# Altium integrated library Altera MAX 7000S.IntLib: 338 symbols (part 1 of 20)
Pins are listed as number, name and electrical type; pins without a type are passive.

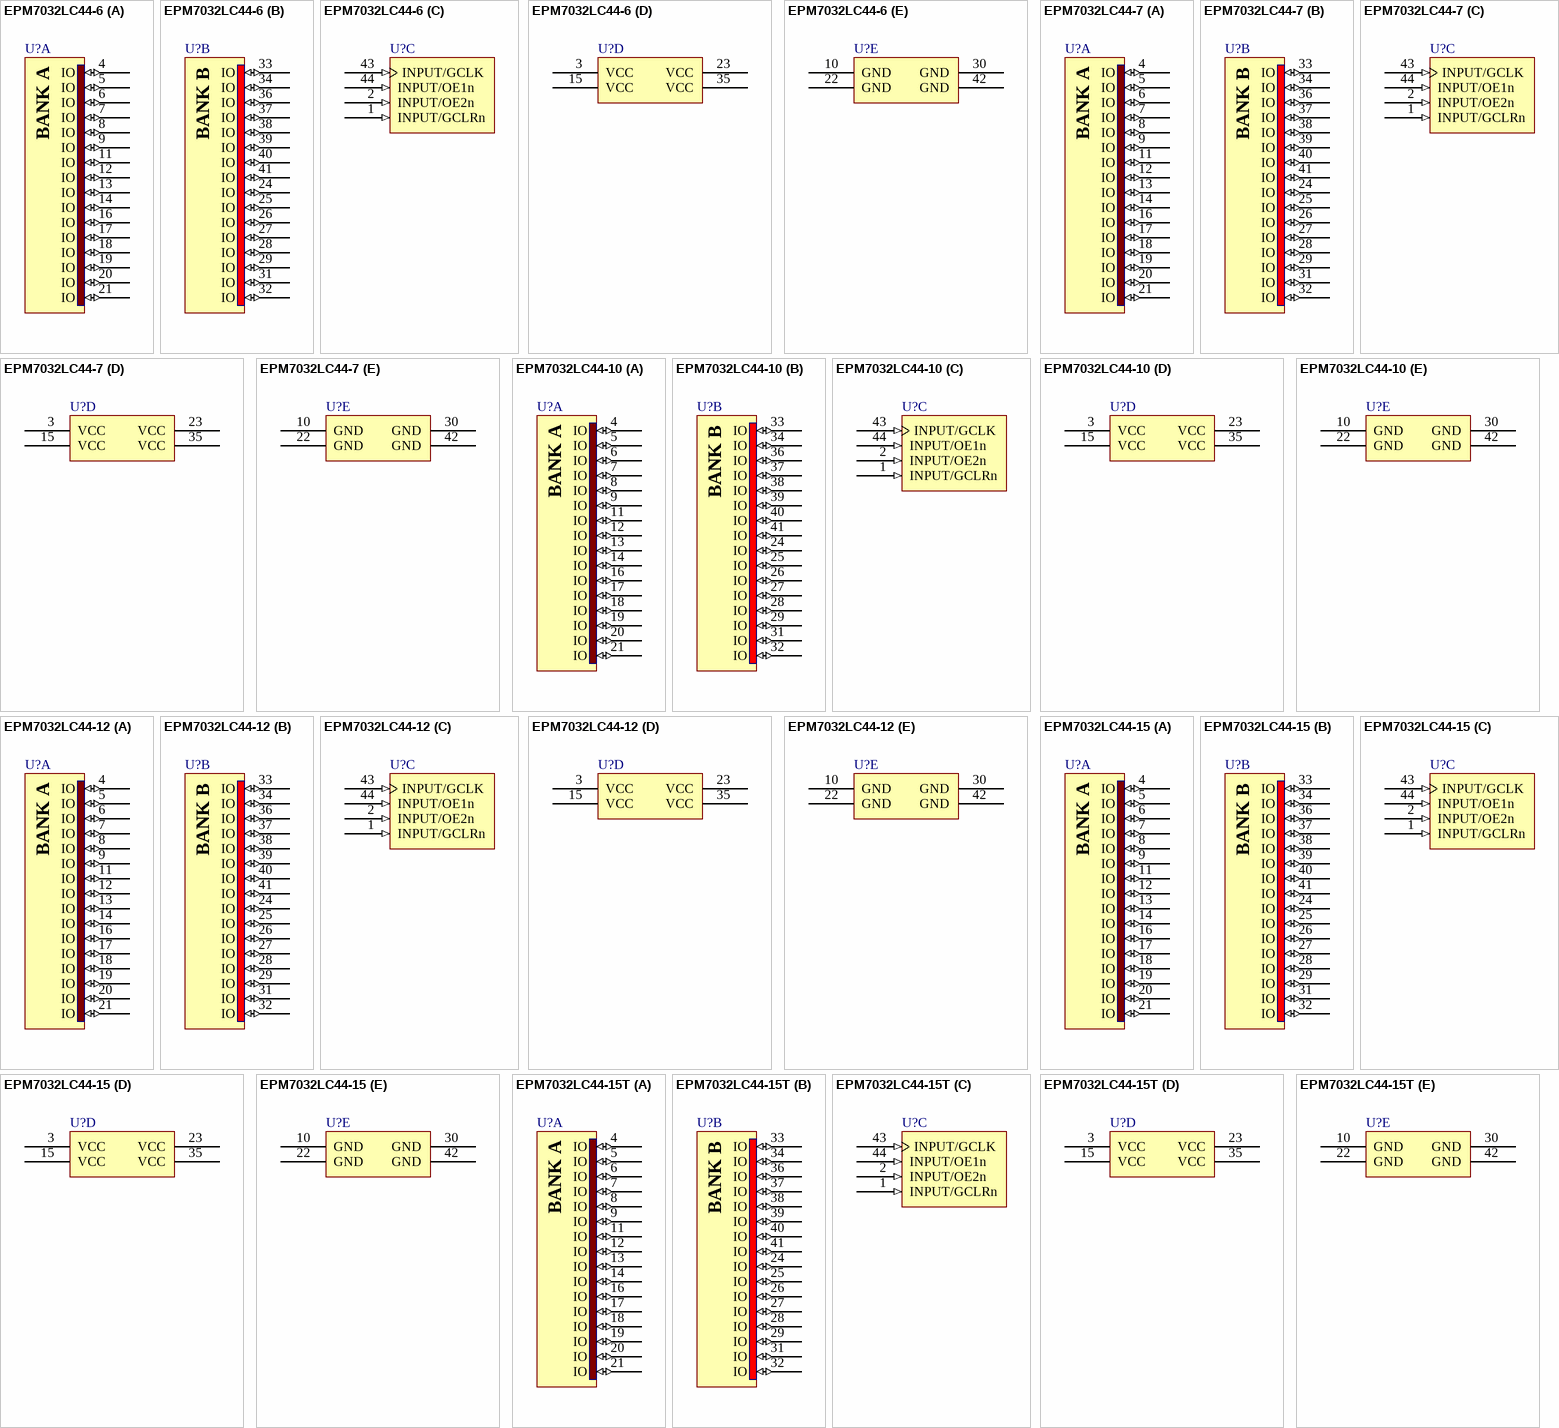
[diagram p0: symbols EPM7032LC44-6 to EPM7032LC44-15T]

## EPM7032LC44-6
designator U?
MAX 7000 5V CPLD, 32 Macrocells, 44-Pin PLCC, Speed Grade 6, Commercial Grade; Published: 24-Nov-2000; LatestRevisionDate: 13-Apr-2006; LatestRevisionNote: IPC-7351 Footprint Added.; DatasheetVersion: ver6.7, Sep-2005; PackageVersion: ver14.3, Jul-2006; PackageReference: PLCC44; Publisher: Altium Limited; PackageDescription: 44-Pin Plastic J-Lead Chip Carrier (PLCC44); Supplier 1: Digi-Key; Supplier Part Number 1: 544-2288-5-ND; Code_JEDEC: MS-018-AC; Code_IPC: PLCC-44; ComponentLink1Description: Manufacturer Link; ComponentLink1URL: http://www.altera.com/products/devices/max7k/m7k-index.html; ComponentLink2Description: Datasheet; ComponentLink2URL: http://www.altera.com/literature/ds/m7000.pdf; ComponentLink3Description: Packaging Specification; ComponentLink3URL: http://www.altera.com/literature/ds/dspkg.pdf
footprint PLCC44_N (Leaded Chip Carrier, 44-Leads, Body 16.6x16.6mm, Pitch 1.27mm, IPC Medium Density)
footprint PLCC44_L (Leaded Chip Carrier, 44-Leads, Body 16.6x16.6mm, Pitch 1.27mm, IPC High Density)
footprint PLCC44_M (Leaded Chip Carrier, 44-Leads, Body 16.6x16.6mm, Pitch 1.27mm, IPC Low Density)
3D model EPM7032-PLCC44 (44-Pin Plastic J-Lead Chip Carrier (PLCC44))
signal-integrity model 7k (MAX 7000S)
part A pins: 4 IO (io), 5 IO (io), 6 IO (io), 7 IO (io), 8 IO (io), 9 IO (io), 11 IO (io), 12 IO (io), 13 IO (io), 14 IO (io), 16 IO (io), 17 IO (io), 18 IO (io), 19 IO (io), 20 IO (io), 21 IO (io)
part B pins: 24 IO (io), 25 IO (io), 26 IO (io), 27 IO (io), 28 IO (io), 29 IO (io), 31 IO (io), 32 IO (io), 33 IO (io), 34 IO (io), 36 IO (io), 37 IO (io), 38 IO (io), 39 IO (io), 40 IO (io), 41 IO (io)
part C pins: 1 INPUT/GCLRn (in), 2 INPUT/OE2n (in), 43 INPUT/GCLK (in), 44 INPUT/OE1n (in)
part D pins: 3 VCC (power), 15 VCC (power), 23 VCC (power), 35 VCC (power)
part E pins: 10 GND (power), 22 GND (power), 30 GND (power), 42 GND (power)
part A text: BANK A
part B text: BANK B

## EPM7032LC44-7
designator U?
MAX 7000 5V CPLD, 32 Macrocells, 44-Pin PLCC, Speed Grade 7, Commercial Grade; Published: 24-Nov-2000; LatestRevisionDate: 13-Apr-2006; LatestRevisionNote: IPC-7351 Footprint Added.; DatasheetVersion: ver6.7, Sep-2005; PackageVersion: ver14.3, Jul-2006; PackageReference: PLCC44; Publisher: Altium Limited; PackageDescription: 44-Pin Plastic J-Lead Chip Carrier (PLCC44); Supplier 1: Digi-Key; Supplier Part Number 1: 544-2289-5-ND; Code_JEDEC: MS-018-AC; Code_IPC: PLCC-44; ComponentLink1Description: Manufacturer Link; ComponentLink1URL: http://www.altera.com/products/devices/max7k/m7k-index.html; ComponentLink2Description: Datasheet; ComponentLink2URL: http://www.altera.com/literature/ds/m7000.pdf; ComponentLink3Description: Packaging Specification; ComponentLink3URL: http://www.altera.com/literature/ds/dspkg.pdf
footprint PLCC44_N (Leaded Chip Carrier, 44-Leads, Body 16.6x16.6mm, Pitch 1.27mm, IPC Medium Density)
footprint PLCC44_L (Leaded Chip Carrier, 44-Leads, Body 16.6x16.6mm, Pitch 1.27mm, IPC High Density)
footprint PLCC44_M (Leaded Chip Carrier, 44-Leads, Body 16.6x16.6mm, Pitch 1.27mm, IPC Low Density)
3D model EPM7032-PLCC44 (44-Pin Plastic J-Lead Chip Carrier (PLCC44))
signal-integrity model 7k (MAX 7000S)
part A pins: 4 IO (io), 5 IO (io), 6 IO (io), 7 IO (io), 8 IO (io), 9 IO (io), 11 IO (io), 12 IO (io), 13 IO (io), 14 IO (io), 16 IO (io), 17 IO (io), 18 IO (io), 19 IO (io), 20 IO (io), 21 IO (io)
part B pins: 24 IO (io), 25 IO (io), 26 IO (io), 27 IO (io), 28 IO (io), 29 IO (io), 31 IO (io), 32 IO (io), 33 IO (io), 34 IO (io), 36 IO (io), 37 IO (io), 38 IO (io), 39 IO (io), 40 IO (io), 41 IO (io)
part C pins: 1 INPUT/GCLRn (in), 2 INPUT/OE2n (in), 43 INPUT/GCLK (in), 44 INPUT/OE1n (in)
part D pins: 3 VCC (power), 15 VCC (power), 23 VCC (power), 35 VCC (power)
part E pins: 10 GND (power), 22 GND (power), 30 GND (power), 42 GND (power)
part A text: BANK A
part B text: BANK B

## EPM7032LC44-10
designator U?
MAX 7000 5V CPLD, 32 Macrocells, 44-Pin PLCC, Speed Grade 10, Commercial Grade; Published: 24-Nov-2000; LatestRevisionDate: 13-Apr-2006; LatestRevisionNote: IPC-7351 Footprint Added.; DatasheetVersion: ver6.7, Sep-2005; PackageVersion: ver14.3, Jul-2006; PackageReference: PLCC44; Publisher: Altium Limited; PackageDescription: 44-Pin Plastic J-Lead Chip Carrier (PLCC44); Supplier 1: Digi-Key; Supplier Part Number 1: 544-2284-5-ND; Code_JEDEC: MS-018-AC; Code_IPC: PLCC-44; ComponentLink1Description: Manufacturer Link; ComponentLink1URL: http://www.altera.com/products/devices/max7k/m7k-index.html; ComponentLink2Description: Datasheet; ComponentLink2URL: http://www.altera.com/literature/ds/m7000.pdf; ComponentLink3Description: Packaging Specification; ComponentLink3URL: http://www.altera.com/literature/ds/dspkg.pdf
footprint PLCC44_N (Leaded Chip Carrier, 44-Leads, Body 16.6x16.6mm, Pitch 1.27mm, IPC Medium Density)
footprint PLCC44_L (Leaded Chip Carrier, 44-Leads, Body 16.6x16.6mm, Pitch 1.27mm, IPC High Density)
footprint PLCC44_M (Leaded Chip Carrier, 44-Leads, Body 16.6x16.6mm, Pitch 1.27mm, IPC Low Density)
3D model EPM7032-PLCC44 (44-Pin Plastic J-Lead Chip Carrier (PLCC44))
signal-integrity model 7k (MAX 7000S)
part A pins: 4 IO (io), 5 IO (io), 6 IO (io), 7 IO (io), 8 IO (io), 9 IO (io), 11 IO (io), 12 IO (io), 13 IO (io), 14 IO (io), 16 IO (io), 17 IO (io), 18 IO (io), 19 IO (io), 20 IO (io), 21 IO (io)
part B pins: 24 IO (io), 25 IO (io), 26 IO (io), 27 IO (io), 28 IO (io), 29 IO (io), 31 IO (io), 32 IO (io), 33 IO (io), 34 IO (io), 36 IO (io), 37 IO (io), 38 IO (io), 39 IO (io), 40 IO (io), 41 IO (io)
part C pins: 1 INPUT/GCLRn (in), 2 INPUT/OE2n (in), 43 INPUT/GCLK (in), 44 INPUT/OE1n (in)
part D pins: 3 VCC (power), 15 VCC (power), 23 VCC (power), 35 VCC (power)
part E pins: 10 GND (power), 22 GND (power), 30 GND (power), 42 GND (power)
part A text: BANK A
part B text: BANK B

## EPM7032LC44-12
designator U?
MAX 7000 5V CPLD, 32 Macrocells, 44-Pin PLCC, Speed Grade 12, Commercial Grade; Published: 24-Nov-2000; LatestRevisionDate: 13-Apr-2006; LatestRevisionNote: IPC-7351 Footprint Added.; DatasheetVersion: ver6.7, Sep-2005; PackageVersion: ver14.3, Jul-2006; PackageReference: PLCC44; Publisher: Altium Limited; PackageDescription: 44-Pin Plastic J-Lead Chip Carrier (PLCC44); Supplier 1: Digi-Key; Supplier Part Number 1: 544-2285-5-ND; Code_JEDEC: MS-018-AC; Code_IPC: PLCC-44; ComponentLink1Description: Manufacturer Link; ComponentLink1URL: http://www.altera.com/products/devices/max7k/m7k-index.html; ComponentLink2Description: Datasheet; ComponentLink2URL: http://www.altera.com/literature/ds/m7000.pdf; ComponentLink3Description: Packaging Specification; ComponentLink3URL: http://www.altera.com/literature/ds/dspkg.pdf
footprint PLCC44_N (Leaded Chip Carrier, 44-Leads, Body 16.6x16.6mm, Pitch 1.27mm, IPC Medium Density)
footprint PLCC44_L (Leaded Chip Carrier, 44-Leads, Body 16.6x16.6mm, Pitch 1.27mm, IPC High Density)
footprint PLCC44_M (Leaded Chip Carrier, 44-Leads, Body 16.6x16.6mm, Pitch 1.27mm, IPC Low Density)
3D model EPM7032-PLCC44 (44-Pin Plastic J-Lead Chip Carrier (PLCC44))
signal-integrity model 7k (MAX 7000S)
part A pins: 4 IO (io), 5 IO (io), 6 IO (io), 7 IO (io), 8 IO (io), 9 IO (io), 11 IO (io), 12 IO (io), 13 IO (io), 14 IO (io), 16 IO (io), 17 IO (io), 18 IO (io), 19 IO (io), 20 IO (io), 21 IO (io)
part B pins: 24 IO (io), 25 IO (io), 26 IO (io), 27 IO (io), 28 IO (io), 29 IO (io), 31 IO (io), 32 IO (io), 33 IO (io), 34 IO (io), 36 IO (io), 37 IO (io), 38 IO (io), 39 IO (io), 40 IO (io), 41 IO (io)
part C pins: 1 INPUT/GCLRn (in), 2 INPUT/OE2n (in), 43 INPUT/GCLK (in), 44 INPUT/OE1n (in)
part D pins: 3 VCC (power), 15 VCC (power), 23 VCC (power), 35 VCC (power)
part E pins: 10 GND (power), 22 GND (power), 30 GND (power), 42 GND (power)
part A text: BANK A
part B text: BANK B

## EPM7032LC44-15
designator U?
MAX 7000 5V CPLD, 32 Macrocells, 44-Pin PLCC, Speed Grade 15, Commercial Grade; Published: 24-Nov-2000; LatestRevisionDate: 13-Apr-2006; LatestRevisionNote: IPC-7351 Footprint Added.; DatasheetVersion: ver6.7, Sep-2005; PackageVersion: ver14.3, Jul-2006; PackageReference: PLCC44; Publisher: Altium Limited; PackageDescription: 44-Pin Plastic J-Lead Chip Carrier (PLCC44); Supplier 1: Digi-Key; Supplier Part Number 1: 544-2286-5-ND; Code_JEDEC: MS-018-AC; Code_IPC: PLCC-44; ComponentLink1Description: Manufacturer Link; ComponentLink1URL: http://www.altera.com/products/devices/max7k/m7k-index.html; ComponentLink2Description: Datasheet; ComponentLink2URL: http://www.altera.com/literature/ds/m7000.pdf; ComponentLink3Description: Packaging Specification; ComponentLink3URL: http://www.altera.com/literature/ds/dspkg.pdf
footprint PLCC44_N (Leaded Chip Carrier, 44-Leads, Body 16.6x16.6mm, Pitch 1.27mm, IPC Medium Density)
footprint PLCC44_L (Leaded Chip Carrier, 44-Leads, Body 16.6x16.6mm, Pitch 1.27mm, IPC High Density)
footprint PLCC44_M (Leaded Chip Carrier, 44-Leads, Body 16.6x16.6mm, Pitch 1.27mm, IPC Low Density)
3D model EPM7032-PLCC44 (44-Pin Plastic J-Lead Chip Carrier (PLCC44))
signal-integrity model 7k (MAX 7000S)
part A pins: 4 IO (io), 5 IO (io), 6 IO (io), 7 IO (io), 8 IO (io), 9 IO (io), 11 IO (io), 12 IO (io), 13 IO (io), 14 IO (io), 16 IO (io), 17 IO (io), 18 IO (io), 19 IO (io), 20 IO (io), 21 IO (io)
part B pins: 24 IO (io), 25 IO (io), 26 IO (io), 27 IO (io), 28 IO (io), 29 IO (io), 31 IO (io), 32 IO (io), 33 IO (io), 34 IO (io), 36 IO (io), 37 IO (io), 38 IO (io), 39 IO (io), 40 IO (io), 41 IO (io)
part C pins: 1 INPUT/GCLRn (in), 2 INPUT/OE2n (in), 43 INPUT/GCLK (in), 44 INPUT/OE1n (in)
part D pins: 3 VCC (power), 15 VCC (power), 23 VCC (power), 35 VCC (power)
part E pins: 10 GND (power), 22 GND (power), 30 GND (power), 42 GND (power)
part A text: BANK A
part B text: BANK B

## EPM7032LC44-15T
designator U?
MAX 7000 5V CPLD, 32 Macrocells, 44-Pin PLCC, Speed Grade 15T, Commercial Grade; Published: 24-Nov-2000; LatestRevisionDate: 13-Apr-2006; LatestRevisionNote: IPC-7351 Footprint Added.; DatasheetVersion: ver6.7, Sep-2005; PackageVersion: ver14.3, Jul-2006; PackageReference: PLCC44; Publisher: Altium Limited; PackageDescription: 44-Pin Plastic J-Lead Chip Carrier (PLCC44); Supplier 1: Digi-Key; Supplier Part Number 1: 544-2287-5-ND; Code_JEDEC: MS-018-AC; Code_IPC: PLCC-44; ComponentLink1Description: Manufacturer Link; ComponentLink1URL: http://www.altera.com/products/devices/max7k/m7k-index.html; ComponentLink2Description: Datasheet; ComponentLink2URL: http://www.altera.com/literature/ds/m7000.pdf; ComponentLink3Description: Packaging Specification; ComponentLink3URL: http://www.altera.com/literature/ds/dspkg.pdf
footprint PLCC44_N (Leaded Chip Carrier, 44-Leads, Body 16.6x16.6mm, Pitch 1.27mm, IPC Medium Density)
footprint PLCC44_L (Leaded Chip Carrier, 44-Leads, Body 16.6x16.6mm, Pitch 1.27mm, IPC High Density)
footprint PLCC44_M (Leaded Chip Carrier, 44-Leads, Body 16.6x16.6mm, Pitch 1.27mm, IPC Low Density)
3D model EPM7032-PLCC44 (44-Pin Plastic J-Lead Chip Carrier (PLCC44))
signal-integrity model 7k (MAX 7000S)
part A pins: 4 IO (io), 5 IO (io), 6 IO (io), 7 IO (io), 8 IO (io), 9 IO (io), 11 IO (io), 12 IO (io), 13 IO (io), 14 IO (io), 16 IO (io), 17 IO (io), 18 IO (io), 19 IO (io), 20 IO (io), 21 IO (io)
part B pins: 24 IO (io), 25 IO (io), 26 IO (io), 27 IO (io), 28 IO (io), 29 IO (io), 31 IO (io), 32 IO (io), 33 IO (io), 34 IO (io), 36 IO (io), 37 IO (io), 38 IO (io), 39 IO (io), 40 IO (io), 41 IO (io)
part C pins: 1 INPUT/GCLRn (in), 2 INPUT/OE2n (in), 43 INPUT/GCLK (in), 44 INPUT/OE1n (in)
part D pins: 3 VCC (power), 15 VCC (power), 23 VCC (power), 35 VCC (power)
part E pins: 10 GND (power), 22 GND (power), 30 GND (power), 42 GND (power)
part A text: BANK A
part B text: BANK B

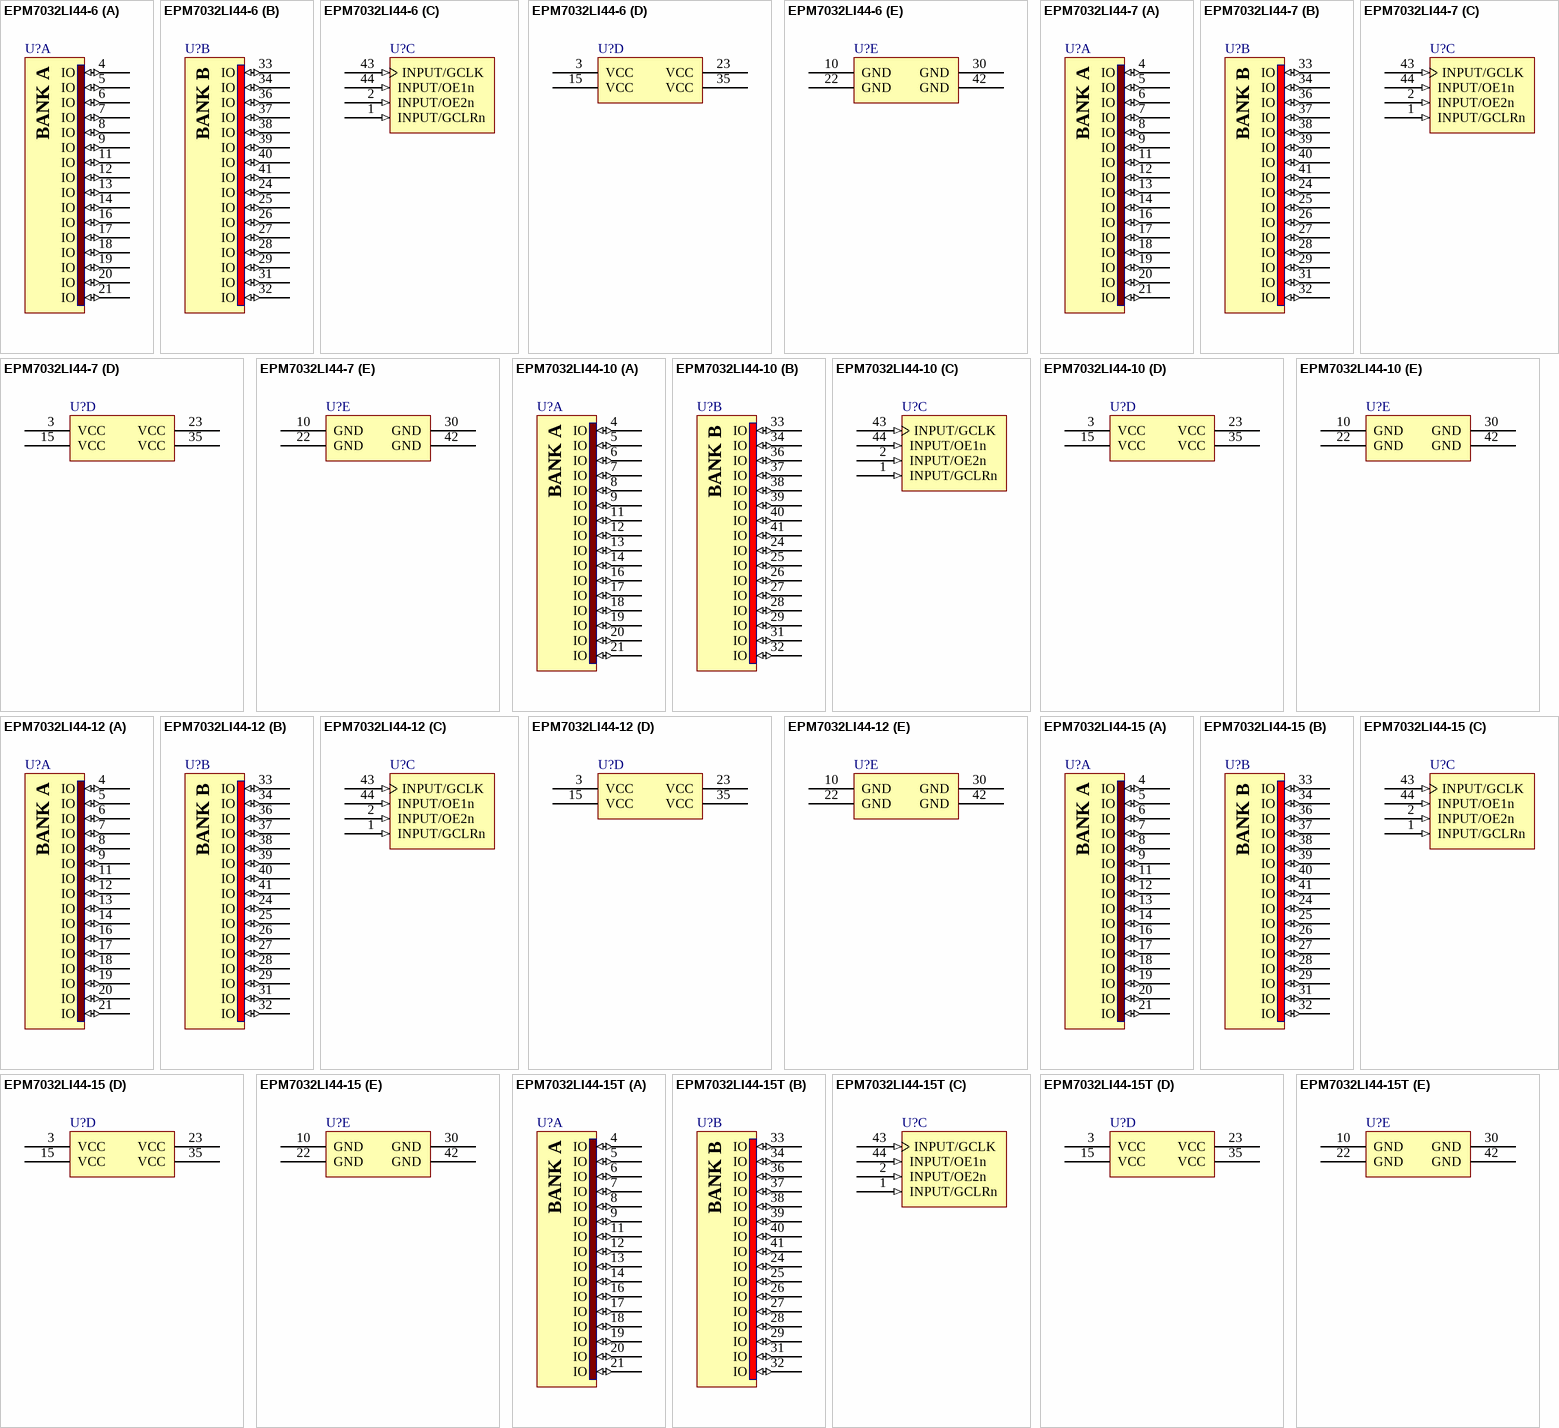
[diagram p1: symbols EPM7032LI44-6 to EPM7032LI44-15T]

## EPM7032LI44-6
designator U?
MAX 7000 5V CPLD, 32 Macrocells, 44-Pin PLCC, Speed Grade 6, Industrial Grade; Published: 17-Sep-2003; LatestRevisionDate: 13-Apr-2006; LatestRevisionNote: IPC-7351 Footprint Added.; DatasheetVersion: ver6.7, Sep-2005; PackageVersion: ver14.3, Jul-2006; PackageReference: PLCC44; Publisher: Altium Limited; PackageDescription: 44-Pin Plastic J-Lead Chip Carrier (PLCC44); Code_JEDEC: MS-018-AC; Code_IPC: PLCC-44; ComponentLink1Description: Manufacturer Link; ComponentLink1URL: http://www.altera.com/products/devices/max7k/m7k-index.html; ComponentLink2Description: Datasheet; ComponentLink2URL: http://www.altera.com/literature/ds/m7000.pdf; ComponentLink3Description: Packaging Specification; ComponentLink3URL: http://www.altera.com/literature/ds/dspkg.pdf
footprint PLCC44_N (Leaded Chip Carrier, 44-Leads, Body 16.6x16.6mm, Pitch 1.27mm, IPC Medium Density)
footprint PLCC44_L (Leaded Chip Carrier, 44-Leads, Body 16.6x16.6mm, Pitch 1.27mm, IPC High Density)
footprint PLCC44_M (Leaded Chip Carrier, 44-Leads, Body 16.6x16.6mm, Pitch 1.27mm, IPC Low Density)
3D model EPM7032-PLCC44 (44-Pin Plastic J-Lead Chip Carrier (PLCC44))
signal-integrity model 7k (MAX 7000S)
part A pins: 4 IO (io), 5 IO (io), 6 IO (io), 7 IO (io), 8 IO (io), 9 IO (io), 11 IO (io), 12 IO (io), 13 IO (io), 14 IO (io), 16 IO (io), 17 IO (io), 18 IO (io), 19 IO (io), 20 IO (io), 21 IO (io)
part B pins: 24 IO (io), 25 IO (io), 26 IO (io), 27 IO (io), 28 IO (io), 29 IO (io), 31 IO (io), 32 IO (io), 33 IO (io), 34 IO (io), 36 IO (io), 37 IO (io), 38 IO (io), 39 IO (io), 40 IO (io), 41 IO (io)
part C pins: 1 INPUT/GCLRn (in), 2 INPUT/OE2n (in), 43 INPUT/GCLK (in), 44 INPUT/OE1n (in)
part D pins: 3 VCC (power), 15 VCC (power), 23 VCC (power), 35 VCC (power)
part E pins: 10 GND (power), 22 GND (power), 30 GND (power), 42 GND (power)
part A text: BANK A
part B text: BANK B

## EPM7032LI44-7
designator U?
MAX 7000 5V CPLD, 32 Macrocells, 44-Pin PLCC, Speed Grade 7, Industrial Grade; Published: 17-Sep-2003; LatestRevisionDate: 13-Apr-2006; LatestRevisionNote: IPC-7351 Footprint Added.; DatasheetVersion: ver6.7, Sep-2005; PackageVersion: ver14.3, Jul-2006; PackageReference: PLCC44; Publisher: Altium Limited; PackageDescription: 44-Pin Plastic J-Lead Chip Carrier (PLCC44); Code_JEDEC: MS-018-AC; Code_IPC: PLCC-44; ComponentLink1Description: Manufacturer Link; ComponentLink1URL: http://www.altera.com/products/devices/max7k/m7k-index.html; ComponentLink2Description: Datasheet; ComponentLink2URL: http://www.altera.com/literature/ds/m7000.pdf; ComponentLink3Description: Packaging Specification; ComponentLink3URL: http://www.altera.com/literature/ds/dspkg.pdf
footprint PLCC44_N (Leaded Chip Carrier, 44-Leads, Body 16.6x16.6mm, Pitch 1.27mm, IPC Medium Density)
footprint PLCC44_L (Leaded Chip Carrier, 44-Leads, Body 16.6x16.6mm, Pitch 1.27mm, IPC High Density)
footprint PLCC44_M (Leaded Chip Carrier, 44-Leads, Body 16.6x16.6mm, Pitch 1.27mm, IPC Low Density)
3D model EPM7032-PLCC44 (44-Pin Plastic J-Lead Chip Carrier (PLCC44))
signal-integrity model 7k (MAX 7000S)
part A pins: 4 IO (io), 5 IO (io), 6 IO (io), 7 IO (io), 8 IO (io), 9 IO (io), 11 IO (io), 12 IO (io), 13 IO (io), 14 IO (io), 16 IO (io), 17 IO (io), 18 IO (io), 19 IO (io), 20 IO (io), 21 IO (io)
part B pins: 24 IO (io), 25 IO (io), 26 IO (io), 27 IO (io), 28 IO (io), 29 IO (io), 31 IO (io), 32 IO (io), 33 IO (io), 34 IO (io), 36 IO (io), 37 IO (io), 38 IO (io), 39 IO (io), 40 IO (io), 41 IO (io)
part C pins: 1 INPUT/GCLRn (in), 2 INPUT/OE2n (in), 43 INPUT/GCLK (in), 44 INPUT/OE1n (in)
part D pins: 3 VCC (power), 15 VCC (power), 23 VCC (power), 35 VCC (power)
part E pins: 10 GND (power), 22 GND (power), 30 GND (power), 42 GND (power)
part A text: BANK A
part B text: BANK B

## EPM7032LI44-10
designator U?
MAX 7000 5V CPLD, 32 Macrocells, 44-Pin PLCC, Speed Grade 10, Industrial Grade; Published: 17-Sep-2003; LatestRevisionDate: 13-Apr-2006; LatestRevisionNote: IPC-7351 Footprint Added.; DatasheetVersion: ver6.7, Sep-2005; PackageVersion: ver14.3, Jul-2006; PackageReference: PLCC44; Publisher: Altium Limited; PackageDescription: 44-Pin Plastic J-Lead Chip Carrier (PLCC44); Code_JEDEC: MS-018-AC; Code_IPC: PLCC-44; ComponentLink1Description: Manufacturer Link; ComponentLink1URL: http://www.altera.com/products/devices/max7k/m7k-index.html; ComponentLink2Description: Datasheet; ComponentLink2URL: http://www.altera.com/literature/ds/m7000.pdf; ComponentLink3Description: Packaging Specification; ComponentLink3URL: http://www.altera.com/literature/ds/dspkg.pdf
footprint PLCC44_N (Leaded Chip Carrier, 44-Leads, Body 16.6x16.6mm, Pitch 1.27mm, IPC Medium Density)
footprint PLCC44_L (Leaded Chip Carrier, 44-Leads, Body 16.6x16.6mm, Pitch 1.27mm, IPC High Density)
footprint PLCC44_M (Leaded Chip Carrier, 44-Leads, Body 16.6x16.6mm, Pitch 1.27mm, IPC Low Density)
3D model EPM7032-PLCC44 (44-Pin Plastic J-Lead Chip Carrier (PLCC44))
signal-integrity model 7k (MAX 7000S)
part A pins: 4 IO (io), 5 IO (io), 6 IO (io), 7 IO (io), 8 IO (io), 9 IO (io), 11 IO (io), 12 IO (io), 13 IO (io), 14 IO (io), 16 IO (io), 17 IO (io), 18 IO (io), 19 IO (io), 20 IO (io), 21 IO (io)
part B pins: 24 IO (io), 25 IO (io), 26 IO (io), 27 IO (io), 28 IO (io), 29 IO (io), 31 IO (io), 32 IO (io), 33 IO (io), 34 IO (io), 36 IO (io), 37 IO (io), 38 IO (io), 39 IO (io), 40 IO (io), 41 IO (io)
part C pins: 1 INPUT/GCLRn (in), 2 INPUT/OE2n (in), 43 INPUT/GCLK (in), 44 INPUT/OE1n (in)
part D pins: 3 VCC (power), 15 VCC (power), 23 VCC (power), 35 VCC (power)
part E pins: 10 GND (power), 22 GND (power), 30 GND (power), 42 GND (power)
part A text: BANK A
part B text: BANK B

## EPM7032LI44-12
designator U?
MAX 7000 5V CPLD, 32 Macrocells, 44-Pin PLCC, Speed Grade 12, Industrial Grade; Published: 24-Nov-2000; LatestRevisionDate: 13-Apr-2006; LatestRevisionNote: IPC-7351 Footprint Added.; DatasheetVersion: ver6.7, Sep-2005; PackageVersion: ver14.3, Jul-2006; PackageReference: PLCC44; Publisher: Altium Limited; PackageDescription: 44-Pin Plastic J-Lead Chip Carrier (PLCC44); Supplier 1: Digi-Key; Supplier Part Number 1: 544-2290-5-ND; Code_JEDEC: MS-018-AC; Code_IPC: PLCC-44; ComponentLink1Description: Manufacturer Link; ComponentLink1URL: http://www.altera.com/products/devices/max7k/m7k-index.html; ComponentLink2Description: Datasheet; ComponentLink2URL: http://www.altera.com/literature/ds/m7000.pdf; ComponentLink3Description: Packaging Specification; ComponentLink3URL: http://www.altera.com/literature/ds/dspkg.pdf
footprint PLCC44_N (Leaded Chip Carrier, 44-Leads, Body 16.6x16.6mm, Pitch 1.27mm, IPC Medium Density)
footprint PLCC44_L (Leaded Chip Carrier, 44-Leads, Body 16.6x16.6mm, Pitch 1.27mm, IPC High Density)
footprint PLCC44_M (Leaded Chip Carrier, 44-Leads, Body 16.6x16.6mm, Pitch 1.27mm, IPC Low Density)
3D model EPM7032-PLCC44 (44-Pin Plastic J-Lead Chip Carrier (PLCC44))
signal-integrity model 7k (MAX 7000S)
part A pins: 4 IO (io), 5 IO (io), 6 IO (io), 7 IO (io), 8 IO (io), 9 IO (io), 11 IO (io), 12 IO (io), 13 IO (io), 14 IO (io), 16 IO (io), 17 IO (io), 18 IO (io), 19 IO (io), 20 IO (io), 21 IO (io)
part B pins: 24 IO (io), 25 IO (io), 26 IO (io), 27 IO (io), 28 IO (io), 29 IO (io), 31 IO (io), 32 IO (io), 33 IO (io), 34 IO (io), 36 IO (io), 37 IO (io), 38 IO (io), 39 IO (io), 40 IO (io), 41 IO (io)
part C pins: 1 INPUT/GCLRn (in), 2 INPUT/OE2n (in), 43 INPUT/GCLK (in), 44 INPUT/OE1n (in)
part D pins: 3 VCC (power), 15 VCC (power), 23 VCC (power), 35 VCC (power)
part E pins: 10 GND (power), 22 GND (power), 30 GND (power), 42 GND (power)
part A text: BANK A
part B text: BANK B

## EPM7032LI44-15
designator U?
MAX 7000 5V CPLD, 32 Macrocells, 44-Pin PLCC, Speed Grade 15, Industrial Grade; Published: 24-Nov-2000; LatestRevisionDate: 13-Apr-2006; LatestRevisionNote: IPC-7351 Footprint Added.; DatasheetVersion: ver6.7, Sep-2005; PackageVersion: ver14.3, Jul-2006; PackageReference: PLCC44; Publisher: Altium Limited; PackageDescription: 44-Pin Plastic J-Lead Chip Carrier (PLCC44); Supplier 1: Digi-Key; Supplier Part Number 1: 544-2291-5-ND; Code_JEDEC: MS-018-AC; Code_IPC: PLCC-44; ComponentLink1Description: Manufacturer Link; ComponentLink1URL: http://www.altera.com/products/devices/max7k/m7k-index.html; ComponentLink2Description: Datasheet; ComponentLink2URL: http://www.altera.com/literature/ds/m7000.pdf; ComponentLink3Description: Packaging Specification; ComponentLink3URL: http://www.altera.com/literature/ds/dspkg.pdf
footprint PLCC44_N (Leaded Chip Carrier, 44-Leads, Body 16.6x16.6mm, Pitch 1.27mm, IPC Medium Density)
footprint PLCC44_L (Leaded Chip Carrier, 44-Leads, Body 16.6x16.6mm, Pitch 1.27mm, IPC High Density)
footprint PLCC44_M (Leaded Chip Carrier, 44-Leads, Body 16.6x16.6mm, Pitch 1.27mm, IPC Low Density)
3D model EPM7032-PLCC44 (44-Pin Plastic J-Lead Chip Carrier (PLCC44))
signal-integrity model 7k (MAX 7000S)
part A pins: 4 IO (io), 5 IO (io), 6 IO (io), 7 IO (io), 8 IO (io), 9 IO (io), 11 IO (io), 12 IO (io), 13 IO (io), 14 IO (io), 16 IO (io), 17 IO (io), 18 IO (io), 19 IO (io), 20 IO (io), 21 IO (io)
part B pins: 24 IO (io), 25 IO (io), 26 IO (io), 27 IO (io), 28 IO (io), 29 IO (io), 31 IO (io), 32 IO (io), 33 IO (io), 34 IO (io), 36 IO (io), 37 IO (io), 38 IO (io), 39 IO (io), 40 IO (io), 41 IO (io)
part C pins: 1 INPUT/GCLRn (in), 2 INPUT/OE2n (in), 43 INPUT/GCLK (in), 44 INPUT/OE1n (in)
part D pins: 3 VCC (power), 15 VCC (power), 23 VCC (power), 35 VCC (power)
part E pins: 10 GND (power), 22 GND (power), 30 GND (power), 42 GND (power)
part A text: BANK A
part B text: BANK B

## EPM7032LI44-15T
designator U?
MAX 7000 5V CPLD, 32 Macrocells, 44-Pin PLCC, Speed Grade 15T, Industrial Grade; Published: 17-Sep-2003; LatestRevisionDate: 13-Apr-2006; LatestRevisionNote: IPC-7351 Footprint Added.; DatasheetVersion: ver6.7, Sep-2005; PackageVersion: ver14.3, Jul-2006; PackageReference: PLCC44; Publisher: Altium Limited; PackageDescription: 44-Pin Plastic J-Lead Chip Carrier (PLCC44); Code_JEDEC: MS-018-AC; Code_IPC: PLCC-44; ComponentLink1Description: Manufacturer Link; ComponentLink1URL: http://www.altera.com/products/devices/max7k/m7k-index.html; ComponentLink2Description: Datasheet; ComponentLink2URL: http://www.altera.com/literature/ds/m7000.pdf; ComponentLink3Description: Packaging Specification; ComponentLink3URL: http://www.altera.com/literature/ds/dspkg.pdf
footprint PLCC44_N (Leaded Chip Carrier, 44-Leads, Body 16.6x16.6mm, Pitch 1.27mm, IPC Medium Density)
footprint PLCC44_L (Leaded Chip Carrier, 44-Leads, Body 16.6x16.6mm, Pitch 1.27mm, IPC High Density)
footprint PLCC44_M (Leaded Chip Carrier, 44-Leads, Body 16.6x16.6mm, Pitch 1.27mm, IPC Low Density)
3D model EPM7032-PLCC44 (44-Pin Plastic J-Lead Chip Carrier (PLCC44))
signal-integrity model 7k (MAX 7000S)
part A pins: 4 IO (io), 5 IO (io), 6 IO (io), 7 IO (io), 8 IO (io), 9 IO (io), 11 IO (io), 12 IO (io), 13 IO (io), 14 IO (io), 16 IO (io), 17 IO (io), 18 IO (io), 19 IO (io), 20 IO (io), 21 IO (io)
part B pins: 24 IO (io), 25 IO (io), 26 IO (io), 27 IO (io), 28 IO (io), 29 IO (io), 31 IO (io), 32 IO (io), 33 IO (io), 34 IO (io), 36 IO (io), 37 IO (io), 38 IO (io), 39 IO (io), 40 IO (io), 41 IO (io)
part C pins: 1 INPUT/GCLRn (in), 2 INPUT/OE2n (in), 43 INPUT/GCLK (in), 44 INPUT/OE1n (in)
part D pins: 3 VCC (power), 15 VCC (power), 23 VCC (power), 35 VCC (power)
part E pins: 10 GND (power), 22 GND (power), 30 GND (power), 42 GND (power)
part A text: BANK A
part B text: BANK B

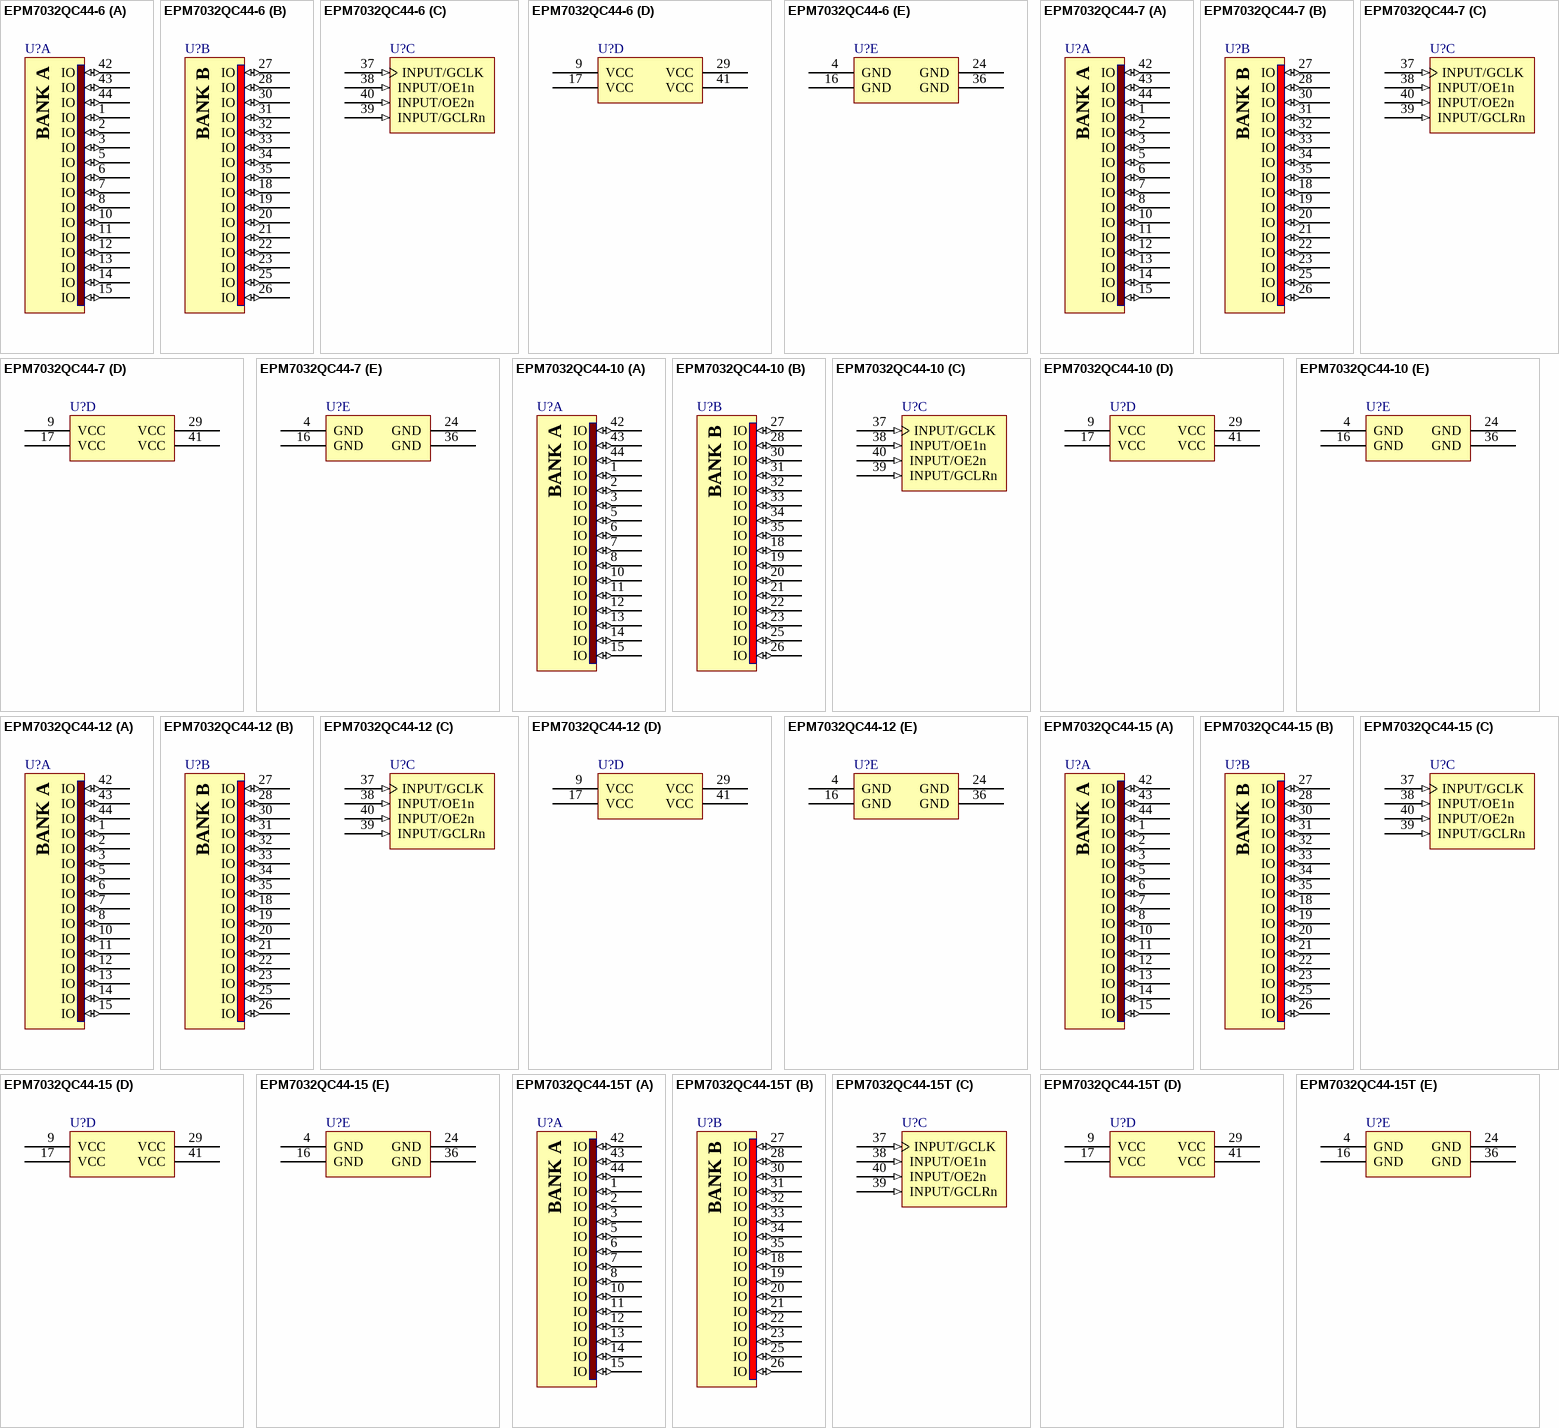
[diagram p2: symbols EPM7032QC44-6 to EPM7032QC44-15T]

## EPM7032QC44-6
designator U?
MAX 7000 5V CPLD, 32 Macrocells, 44-Pin PQFP, Speed Grade 6, Commercial Grade; Published: 24-Nov-2000; LatestRevisionDate: 13-Apr-2006; LatestRevisionNote: IPC-7351 Footprint Added.; DatasheetVersion: ver6.7, Sep-2005; PackageVersion: ver14.3, Jul-2006; PackageReference: PQFP44; Publisher: Altium Limited; PackageDescription: 44-Pin Plastic Quad Flat Pack (PFQP44); Code_JEDEC: MS-022-AB; Code_IPC: QFP80P1320X1320-44; ComponentLink1Description: Manufacturer Link; ComponentLink1URL: http://www.altera.com/products/devices/max7k/m7k-index.html; ComponentLink2Description: Datasheet; ComponentLink2URL: http://www.altera.com/literature/ds/m7000.pdf; ComponentLink3Description: Packaging Specification; ComponentLink3URL: http://www.altera.com/literature/ds/dspkg.pdf
footprint PQFP44_N (QFP, 44-Leads, Body 10x10mm, Pitch 0.8mm, IPC Medium Density)
footprint PQFP44_L (QFP, 44-Leads, Body 10x10mm, Pitch 0.8mm, IPC High Density)
footprint PQFP44_M (QFP, 44-Leads, Body 10x10mm, Pitch 0.8mm, IPC Low Density)
3D model EPM7032-PQFP44 (44-Pin Plastic Quad Flat Pack (PFQP44))
signal-integrity model 7k (MAX 7000S)
part A pins: 1 IO (io), 2 IO (io), 3 IO (io), 5 IO (io), 6 IO (io), 7 IO (io), 8 IO (io), 10 IO (io), 11 IO (io), 12 IO (io), 13 IO (io), 14 IO (io), 15 IO (io), 42 IO (io), 43 IO (io), 44 IO (io)
part B pins: 18 IO (io), 19 IO (io), 20 IO (io), 21 IO (io), 22 IO (io), 23 IO (io), 25 IO (io), 26 IO (io), 27 IO (io), 28 IO (io), 30 IO (io), 31 IO (io), 32 IO (io), 33 IO (io), 34 IO (io), 35 IO (io)
part C pins: 37 INPUT/GCLK (in), 38 INPUT/OE1n (in), 39 INPUT/GCLRn (in), 40 INPUT/OE2n (in)
part D pins: 9 VCC (power), 17 VCC (power), 29 VCC (power), 41 VCC (power)
part E pins: 4 GND (power), 16 GND (power), 24 GND (power), 36 GND (power)
part A text: BANK A
part B text: BANK B

## EPM7032QC44-7
designator U?
MAX 7000 5V CPLD, 32 Macrocells, 44-Pin PQFP, Speed Grade 7, Commercial Grade; Published: 24-Nov-2000; LatestRevisionDate: 13-Apr-2006; LatestRevisionNote: IPC-7351 Footprint Added.; DatasheetVersion: ver6.7, Sep-2005; PackageVersion: ver14.3, Jul-2006; PackageReference: PQFP44; Publisher: Altium Limited; PackageDescription: 44-Pin Plastic Quad Flat Pack (PFQP44); Code_JEDEC: MS-022-AB; Code_IPC: QFP80P1320X1320-44; ComponentLink1Description: Manufacturer Link; ComponentLink1URL: http://www.altera.com/products/devices/max7k/m7k-index.html; ComponentLink2Description: Datasheet; ComponentLink2URL: http://www.altera.com/literature/ds/m7000.pdf; ComponentLink3Description: Packaging Specification; ComponentLink3URL: http://www.altera.com/literature/ds/dspkg.pdf
footprint PQFP44_N (QFP, 44-Leads, Body 10x10mm, Pitch 0.8mm, IPC Medium Density)
footprint PQFP44_L (QFP, 44-Leads, Body 10x10mm, Pitch 0.8mm, IPC High Density)
footprint PQFP44_M (QFP, 44-Leads, Body 10x10mm, Pitch 0.8mm, IPC Low Density)
3D model EPM7032-PQFP44 (44-Pin Plastic Quad Flat Pack (PFQP44))
signal-integrity model 7k (MAX 7000S)
part A pins: 1 IO (io), 2 IO (io), 3 IO (io), 5 IO (io), 6 IO (io), 7 IO (io), 8 IO (io), 10 IO (io), 11 IO (io), 12 IO (io), 13 IO (io), 14 IO (io), 15 IO (io), 42 IO (io), 43 IO (io), 44 IO (io)
part B pins: 18 IO (io), 19 IO (io), 20 IO (io), 21 IO (io), 22 IO (io), 23 IO (io), 25 IO (io), 26 IO (io), 27 IO (io), 28 IO (io), 30 IO (io), 31 IO (io), 32 IO (io), 33 IO (io), 34 IO (io), 35 IO (io)
part C pins: 37 INPUT/GCLK (in), 38 INPUT/OE1n (in), 39 INPUT/GCLRn (in), 40 INPUT/OE2n (in)
part D pins: 9 VCC (power), 17 VCC (power), 29 VCC (power), 41 VCC (power)
part E pins: 4 GND (power), 16 GND (power), 24 GND (power), 36 GND (power)
part A text: BANK A
part B text: BANK B

## EPM7032QC44-10
designator U?
MAX 7000 5V CPLD, 32 Macrocells, 44-Pin PQFP, Speed Grade 10, Commercial Grade; Published: 24-Nov-2000; LatestRevisionDate: 13-Apr-2006; LatestRevisionNote: IPC-7351 Footprint Added.; DatasheetVersion: ver6.7, Sep-2005; PackageVersion: ver14.3, Jul-2006; PackageReference: PQFP44; Publisher: Altium Limited; PackageDescription: 44-Pin Plastic Quad Flat Pack (PFQP44); Code_JEDEC: MS-022-AB; Code_IPC: QFP80P1320X1320-44; ComponentLink1Description: Manufacturer Link; ComponentLink1URL: http://www.altera.com/products/devices/max7k/m7k-index.html; ComponentLink2Description: Datasheet; ComponentLink2URL: http://www.altera.com/literature/ds/m7000.pdf; ComponentLink3Description: Packaging Specification; ComponentLink3URL: http://www.altera.com/literature/ds/dspkg.pdf
footprint PQFP44_N (QFP, 44-Leads, Body 10x10mm, Pitch 0.8mm, IPC Medium Density)
footprint PQFP44_L (QFP, 44-Leads, Body 10x10mm, Pitch 0.8mm, IPC High Density)
footprint PQFP44_M (QFP, 44-Leads, Body 10x10mm, Pitch 0.8mm, IPC Low Density)
3D model EPM7032-PQFP44 (44-Pin Plastic Quad Flat Pack (PFQP44))
signal-integrity model 7k (MAX 7000S)
part A pins: 1 IO (io), 2 IO (io), 3 IO (io), 5 IO (io), 6 IO (io), 7 IO (io), 8 IO (io), 10 IO (io), 11 IO (io), 12 IO (io), 13 IO (io), 14 IO (io), 15 IO (io), 42 IO (io), 43 IO (io), 44 IO (io)
part B pins: 18 IO (io), 19 IO (io), 20 IO (io), 21 IO (io), 22 IO (io), 23 IO (io), 25 IO (io), 26 IO (io), 27 IO (io), 28 IO (io), 30 IO (io), 31 IO (io), 32 IO (io), 33 IO (io), 34 IO (io), 35 IO (io)
part C pins: 37 INPUT/GCLK (in), 38 INPUT/OE1n (in), 39 INPUT/GCLRn (in), 40 INPUT/OE2n (in)
part D pins: 9 VCC (power), 17 VCC (power), 29 VCC (power), 41 VCC (power)
part E pins: 4 GND (power), 16 GND (power), 24 GND (power), 36 GND (power)
part A text: BANK A
part B text: BANK B

## EPM7032QC44-12
designator U?
MAX 7000 5V CPLD, 32 Macrocells, 44-Pin PQFP, Speed Grade 12, Commercial Grade; Published: 24-Nov-2000; LatestRevisionDate: 13-Apr-2006; LatestRevisionNote: IPC-7351 Footprint Added.; DatasheetVersion: ver6.7, Sep-2005; PackageVersion: ver14.3, Jul-2006; PackageReference: PQFP44; Publisher: Altium Limited; PackageDescription: 44-Pin Plastic Quad Flat Pack (PFQP44); Code_JEDEC: MS-022-AB; Code_IPC: QFP80P1320X1320-44; ComponentLink1Description: Manufacturer Link; ComponentLink1URL: http://www.altera.com/products/devices/max7k/m7k-index.html; ComponentLink2Description: Datasheet; ComponentLink2URL: http://www.altera.com/literature/ds/m7000.pdf; ComponentLink3Description: Packaging Specification; ComponentLink3URL: http://www.altera.com/literature/ds/dspkg.pdf
footprint PQFP44_N (QFP, 44-Leads, Body 10x10mm, Pitch 0.8mm, IPC Medium Density)
footprint PQFP44_L (QFP, 44-Leads, Body 10x10mm, Pitch 0.8mm, IPC High Density)
footprint PQFP44_M (QFP, 44-Leads, Body 10x10mm, Pitch 0.8mm, IPC Low Density)
3D model EPM7032-PQFP44 (44-Pin Plastic Quad Flat Pack (PFQP44))
signal-integrity model 7k (MAX 7000S)
part A pins: 1 IO (io), 2 IO (io), 3 IO (io), 5 IO (io), 6 IO (io), 7 IO (io), 8 IO (io), 10 IO (io), 11 IO (io), 12 IO (io), 13 IO (io), 14 IO (io), 15 IO (io), 42 IO (io), 43 IO (io), 44 IO (io)
part B pins: 18 IO (io), 19 IO (io), 20 IO (io), 21 IO (io), 22 IO (io), 23 IO (io), 25 IO (io), 26 IO (io), 27 IO (io), 28 IO (io), 30 IO (io), 31 IO (io), 32 IO (io), 33 IO (io), 34 IO (io), 35 IO (io)
part C pins: 37 INPUT/GCLK (in), 38 INPUT/OE1n (in), 39 INPUT/GCLRn (in), 40 INPUT/OE2n (in)
part D pins: 9 VCC (power), 17 VCC (power), 29 VCC (power), 41 VCC (power)
part E pins: 4 GND (power), 16 GND (power), 24 GND (power), 36 GND (power)
part A text: BANK A
part B text: BANK B

## EPM7032QC44-15
designator U?
MAX 7000 5V CPLD, 32 Macrocells, 44-Pin PQFP, Speed Grade 15, Commercial Grade; Published: 24-Nov-2000; LatestRevisionDate: 13-Apr-2006; LatestRevisionNote: IPC-7351 Footprint Added.; DatasheetVersion: ver6.7, Sep-2005; PackageVersion: ver14.3, Jul-2006; PackageReference: PQFP44; Publisher: Altium Limited; PackageDescription: 44-Pin Plastic Quad Flat Pack (PFQP44); Supplier 1: Digi-Key; Supplier Part Number 1: 544-2292-ND; Code_JEDEC: MS-022-AB; Code_IPC: QFP80P1320X1320-44; ComponentLink1Description: Manufacturer Link; ComponentLink1URL: http://www.altera.com/products/devices/max7k/m7k-index.html; ComponentLink2Description: Datasheet; ComponentLink2URL: http://www.altera.com/literature/ds/m7000.pdf; ComponentLink3Description: Packaging Specification; ComponentLink3URL: http://www.altera.com/literature/ds/dspkg.pdf
footprint PQFP44_N (QFP, 44-Leads, Body 10x10mm, Pitch 0.8mm, IPC Medium Density)
footprint PQFP44_L (QFP, 44-Leads, Body 10x10mm, Pitch 0.8mm, IPC High Density)
footprint PQFP44_M (QFP, 44-Leads, Body 10x10mm, Pitch 0.8mm, IPC Low Density)
3D model EPM7032-PQFP44 (44-Pin Plastic Quad Flat Pack (PFQP44))
signal-integrity model 7k (MAX 7000S)
part A pins: 1 IO (io), 2 IO (io), 3 IO (io), 5 IO (io), 6 IO (io), 7 IO (io), 8 IO (io), 10 IO (io), 11 IO (io), 12 IO (io), 13 IO (io), 14 IO (io), 15 IO (io), 42 IO (io), 43 IO (io), 44 IO (io)
part B pins: 18 IO (io), 19 IO (io), 20 IO (io), 21 IO (io), 22 IO (io), 23 IO (io), 25 IO (io), 26 IO (io), 27 IO (io), 28 IO (io), 30 IO (io), 31 IO (io), 32 IO (io), 33 IO (io), 34 IO (io), 35 IO (io)
part C pins: 37 INPUT/GCLK (in), 38 INPUT/OE1n (in), 39 INPUT/GCLRn (in), 40 INPUT/OE2n (in)
part D pins: 9 VCC (power), 17 VCC (power), 29 VCC (power), 41 VCC (power)
part E pins: 4 GND (power), 16 GND (power), 24 GND (power), 36 GND (power)
part A text: BANK A
part B text: BANK B

## EPM7032QC44-15T
designator U?
MAX 7000 5V CPLD, 32 Macrocells, 44-Pin PQFP, Speed Grade 15T, Commercial Grade; Published: 24-Nov-2000; LatestRevisionDate: 13-Apr-2006; LatestRevisionNote: IPC-7351 Footprint Added.; DatasheetVersion: ver6.7, Sep-2005; PackageVersion: ver14.3, Jul-2006; PackageReference: PQFP44; Publisher: Altium Limited; PackageDescription: 44-Pin Plastic Quad Flat Pack (PFQP44); Code_JEDEC: MS-022-AB; Code_IPC: QFP80P1320X1320-44; ComponentLink1Description: Manufacturer Link; ComponentLink1URL: http://www.altera.com/products/devices/max7k/m7k-index.html; ComponentLink2Description: Datasheet; ComponentLink2URL: http://www.altera.com/literature/ds/m7000.pdf; ComponentLink3Description: Packaging Specification; ComponentLink3URL: http://www.altera.com/literature/ds/dspkg.pdf
footprint PQFP44_N (QFP, 44-Leads, Body 10x10mm, Pitch 0.8mm, IPC Medium Density)
footprint PQFP44_L (QFP, 44-Leads, Body 10x10mm, Pitch 0.8mm, IPC High Density)
footprint PQFP44_M (QFP, 44-Leads, Body 10x10mm, Pitch 0.8mm, IPC Low Density)
3D model EPM7032-PQFP44 (44-Pin Plastic Quad Flat Pack (PFQP44))
signal-integrity model 7k (MAX 7000S)
part A pins: 1 IO (io), 2 IO (io), 3 IO (io), 5 IO (io), 6 IO (io), 7 IO (io), 8 IO (io), 10 IO (io), 11 IO (io), 12 IO (io), 13 IO (io), 14 IO (io), 15 IO (io), 42 IO (io), 43 IO (io), 44 IO (io)
part B pins: 18 IO (io), 19 IO (io), 20 IO (io), 21 IO (io), 22 IO (io), 23 IO (io), 25 IO (io), 26 IO (io), 27 IO (io), 28 IO (io), 30 IO (io), 31 IO (io), 32 IO (io), 33 IO (io), 34 IO (io), 35 IO (io)
part C pins: 37 INPUT/GCLK (in), 38 INPUT/OE1n (in), 39 INPUT/GCLRn (in), 40 INPUT/OE2n (in)
part D pins: 9 VCC (power), 17 VCC (power), 29 VCC (power), 41 VCC (power)
part E pins: 4 GND (power), 16 GND (power), 24 GND (power), 36 GND (power)
part A text: BANK A
part B text: BANK B

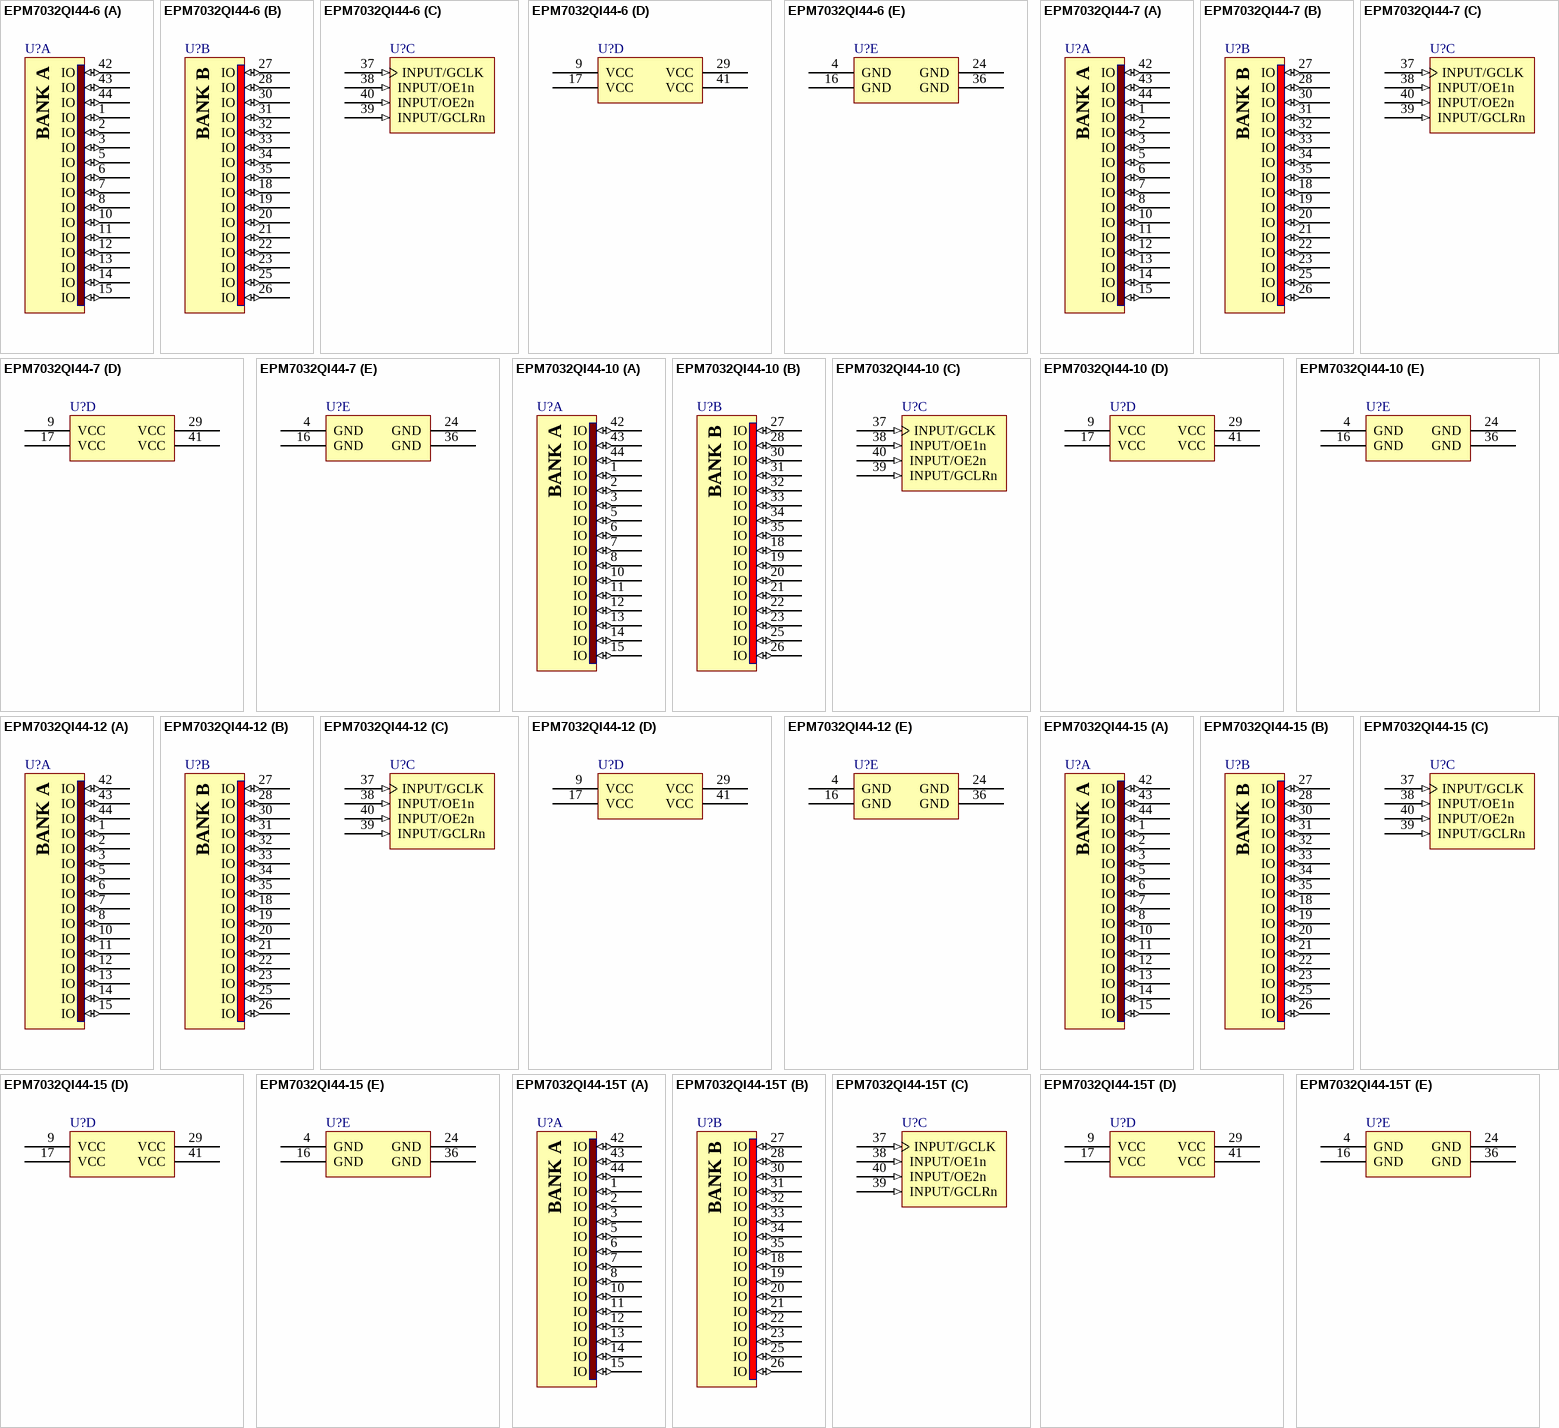
[diagram p3: symbols EPM7032QI44-6 to EPM7032QI44-15T]

## EPM7032QI44-6
designator U?
MAX 7000 5V CPLD, 32 Macrocells, 44-Pin PQFP, Speed Grade 6, Industrial Grade; Published: 17-Sep-2003; LatestRevisionDate: 13-Apr-2006; LatestRevisionNote: IPC-7351 Footprint Added.; DatasheetVersion: ver6.7, Sep-2005; PackageVersion: ver14.3, Jul-2006; PackageReference: PQFP44; Publisher: Altium Limited; PackageDescription: 44-Pin Plastic Quad Flat Pack (PFQP44); Code_JEDEC: MS-022-AB; Code_IPC: QFP80P1320X1320-44; ComponentLink1Description: Manufacturer Link; ComponentLink1URL: http://www.altera.com/products/devices/max7k/m7k-index.html; ComponentLink2Description: Datasheet; ComponentLink2URL: http://www.altera.com/literature/ds/m7000.pdf; ComponentLink3Description: Packaging Specification; ComponentLink3URL: http://www.altera.com/literature/ds/dspkg.pdf
footprint PQFP44_N (QFP, 44-Leads, Body 10x10mm, Pitch 0.8mm, IPC Medium Density)
footprint PQFP44_L (QFP, 44-Leads, Body 10x10mm, Pitch 0.8mm, IPC High Density)
footprint PQFP44_M (QFP, 44-Leads, Body 10x10mm, Pitch 0.8mm, IPC Low Density)
3D model EPM7032-PQFP44 (44-Pin Plastic Quad Flat Pack (PFQP44))
signal-integrity model 7k (MAX 7000S)
part A pins: 1 IO (io), 2 IO (io), 3 IO (io), 5 IO (io), 6 IO (io), 7 IO (io), 8 IO (io), 10 IO (io), 11 IO (io), 12 IO (io), 13 IO (io), 14 IO (io), 15 IO (io), 42 IO (io), 43 IO (io), 44 IO (io)
part B pins: 18 IO (io), 19 IO (io), 20 IO (io), 21 IO (io), 22 IO (io), 23 IO (io), 25 IO (io), 26 IO (io), 27 IO (io), 28 IO (io), 30 IO (io), 31 IO (io), 32 IO (io), 33 IO (io), 34 IO (io), 35 IO (io)
part C pins: 37 INPUT/GCLK (in), 38 INPUT/OE1n (in), 39 INPUT/GCLRn (in), 40 INPUT/OE2n (in)
part D pins: 9 VCC (power), 17 VCC (power), 29 VCC (power), 41 VCC (power)
part E pins: 4 GND (power), 16 GND (power), 24 GND (power), 36 GND (power)
part A text: BANK A
part B text: BANK B

## EPM7032QI44-7
designator U?
MAX 7000 5V CPLD, 32 Macrocells, 44-Pin PQFP, Speed Grade 7, Industrial Grade; Published: 17-Sep-2003; LatestRevisionDate: 13-Apr-2006; LatestRevisionNote: IPC-7351 Footprint Added.; DatasheetVersion: ver6.7, Sep-2005; PackageVersion: ver14.3, Jul-2006; PackageReference: PQFP44; Publisher: Altium Limited; PackageDescription: 44-Pin Plastic Quad Flat Pack (PFQP44); Code_JEDEC: MS-022-AB; Code_IPC: QFP80P1320X1320-44; ComponentLink1Description: Manufacturer Link; ComponentLink1URL: http://www.altera.com/products/devices/max7k/m7k-index.html; ComponentLink2Description: Datasheet; ComponentLink2URL: http://www.altera.com/literature/ds/m7000.pdf; ComponentLink3Description: Packaging Specification; ComponentLink3URL: http://www.altera.com/literature/ds/dspkg.pdf
footprint PQFP44_N (QFP, 44-Leads, Body 10x10mm, Pitch 0.8mm, IPC Medium Density)
footprint PQFP44_L (QFP, 44-Leads, Body 10x10mm, Pitch 0.8mm, IPC High Density)
footprint PQFP44_M (QFP, 44-Leads, Body 10x10mm, Pitch 0.8mm, IPC Low Density)
3D model EPM7032-PQFP44 (44-Pin Plastic Quad Flat Pack (PFQP44))
signal-integrity model 7k (MAX 7000S)
part A pins: 1 IO (io), 2 IO (io), 3 IO (io), 5 IO (io), 6 IO (io), 7 IO (io), 8 IO (io), 10 IO (io), 11 IO (io), 12 IO (io), 13 IO (io), 14 IO (io), 15 IO (io), 42 IO (io), 43 IO (io), 44 IO (io)
part B pins: 18 IO (io), 19 IO (io), 20 IO (io), 21 IO (io), 22 IO (io), 23 IO (io), 25 IO (io), 26 IO (io), 27 IO (io), 28 IO (io), 30 IO (io), 31 IO (io), 32 IO (io), 33 IO (io), 34 IO (io), 35 IO (io)
part C pins: 37 INPUT/GCLK (in), 38 INPUT/OE1n (in), 39 INPUT/GCLRn (in), 40 INPUT/OE2n (in)
part D pins: 9 VCC (power), 17 VCC (power), 29 VCC (power), 41 VCC (power)
part E pins: 4 GND (power), 16 GND (power), 24 GND (power), 36 GND (power)
part A text: BANK A
part B text: BANK B

## EPM7032QI44-10
designator U?
MAX 7000 5V CPLD, 32 Macrocells, 44-Pin PQFP, Speed Grade 10, Industrial Grade; Published: 17-Sep-2003; LatestRevisionDate: 13-Apr-2006; LatestRevisionNote: IPC-7351 Footprint Added.; DatasheetVersion: ver6.7, Sep-2005; PackageVersion: ver14.3, Jul-2006; PackageReference: PQFP44; Publisher: Altium Limited; PackageDescription: 44-Pin Plastic Quad Flat Pack (PFQP44); Code_JEDEC: MS-022-AB; Code_IPC: QFP80P1320X1320-44; ComponentLink1Description: Manufacturer Link; ComponentLink1URL: http://www.altera.com/products/devices/max7k/m7k-index.html; ComponentLink2Description: Datasheet; ComponentLink2URL: http://www.altera.com/literature/ds/m7000.pdf; ComponentLink3Description: Packaging Specification; ComponentLink3URL: http://www.altera.com/literature/ds/dspkg.pdf
footprint PQFP44_N (QFP, 44-Leads, Body 10x10mm, Pitch 0.8mm, IPC Medium Density)
footprint PQFP44_L (QFP, 44-Leads, Body 10x10mm, Pitch 0.8mm, IPC High Density)
footprint PQFP44_M (QFP, 44-Leads, Body 10x10mm, Pitch 0.8mm, IPC Low Density)
3D model EPM7032-PQFP44 (44-Pin Plastic Quad Flat Pack (PFQP44))
signal-integrity model 7k (MAX 7000S)
part A pins: 1 IO (io), 2 IO (io), 3 IO (io), 5 IO (io), 6 IO (io), 7 IO (io), 8 IO (io), 10 IO (io), 11 IO (io), 12 IO (io), 13 IO (io), 14 IO (io), 15 IO (io), 42 IO (io), 43 IO (io), 44 IO (io)
part B pins: 18 IO (io), 19 IO (io), 20 IO (io), 21 IO (io), 22 IO (io), 23 IO (io), 25 IO (io), 26 IO (io), 27 IO (io), 28 IO (io), 30 IO (io), 31 IO (io), 32 IO (io), 33 IO (io), 34 IO (io), 35 IO (io)
part C pins: 37 INPUT/GCLK (in), 38 INPUT/OE1n (in), 39 INPUT/GCLRn (in), 40 INPUT/OE2n (in)
part D pins: 9 VCC (power), 17 VCC (power), 29 VCC (power), 41 VCC (power)
part E pins: 4 GND (power), 16 GND (power), 24 GND (power), 36 GND (power)
part A text: BANK A
part B text: BANK B

## EPM7032QI44-12
designator U?
MAX 7000 5V CPLD, 32 Macrocells, 44-Pin PQFP, Speed Grade 12, Industrial Grade; Published: 24-Nov-2000; LatestRevisionDate: 13-Apr-2006; LatestRevisionNote: IPC-7351 Footprint Added.; DatasheetVersion: ver6.7, Sep-2005; PackageVersion: ver14.3, Jul-2006; PackageReference: PQFP44; Publisher: Altium Limited; PackageDescription: 44-Pin Plastic Quad Flat Pack (PFQP44); Code_JEDEC: MS-022-AB; Code_IPC: QFP80P1320X1320-44; ComponentLink1Description: Manufacturer Link; ComponentLink1URL: http://www.altera.com/products/devices/max7k/m7k-index.html; ComponentLink2Description: Datasheet; ComponentLink2URL: http://www.altera.com/literature/ds/m7000.pdf; ComponentLink3Description: Packaging Specification; ComponentLink3URL: http://www.altera.com/literature/ds/dspkg.pdf
footprint PQFP44_N (QFP, 44-Leads, Body 10x10mm, Pitch 0.8mm, IPC Medium Density)
footprint PQFP44_L (QFP, 44-Leads, Body 10x10mm, Pitch 0.8mm, IPC High Density)
footprint PQFP44_M (QFP, 44-Leads, Body 10x10mm, Pitch 0.8mm, IPC Low Density)
3D model EPM7032-PQFP44 (44-Pin Plastic Quad Flat Pack (PFQP44))
signal-integrity model 7k (MAX 7000S)
part A pins: 1 IO (io), 2 IO (io), 3 IO (io), 5 IO (io), 6 IO (io), 7 IO (io), 8 IO (io), 10 IO (io), 11 IO (io), 12 IO (io), 13 IO (io), 14 IO (io), 15 IO (io), 42 IO (io), 43 IO (io), 44 IO (io)
part B pins: 18 IO (io), 19 IO (io), 20 IO (io), 21 IO (io), 22 IO (io), 23 IO (io), 25 IO (io), 26 IO (io), 27 IO (io), 28 IO (io), 30 IO (io), 31 IO (io), 32 IO (io), 33 IO (io), 34 IO (io), 35 IO (io)
part C pins: 37 INPUT/GCLK (in), 38 INPUT/OE1n (in), 39 INPUT/GCLRn (in), 40 INPUT/OE2n (in)
part D pins: 9 VCC (power), 17 VCC (power), 29 VCC (power), 41 VCC (power)
part E pins: 4 GND (power), 16 GND (power), 24 GND (power), 36 GND (power)
part A text: BANK A
part B text: BANK B

## EPM7032QI44-15
designator U?
MAX 7000 5V CPLD, 32 Macrocells, 44-Pin PQFP, Speed Grade 15, Industrial Grade; Published: 24-Nov-2000; LatestRevisionDate: 13-Apr-2006; LatestRevisionNote: IPC-7351 Footprint Added.; DatasheetVersion: ver6.7, Sep-2005; PackageVersion: ver14.3, Jul-2006; PackageReference: PQFP44; Publisher: Altium Limited; PackageDescription: 44-Pin Plastic Quad Flat Pack (PFQP44); Code_JEDEC: MS-022-AB; Code_IPC: QFP80P1320X1320-44; ComponentLink1Description: Manufacturer Link; ComponentLink1URL: http://www.altera.com/products/devices/max7k/m7k-index.html; ComponentLink2Description: Datasheet; ComponentLink2URL: http://www.altera.com/literature/ds/m7000.pdf; ComponentLink3Description: Packaging Specification; ComponentLink3URL: http://www.altera.com/literature/ds/dspkg.pdf
footprint PQFP44_N (QFP, 44-Leads, Body 10x10mm, Pitch 0.8mm, IPC Medium Density)
footprint PQFP44_L (QFP, 44-Leads, Body 10x10mm, Pitch 0.8mm, IPC High Density)
footprint PQFP44_M (QFP, 44-Leads, Body 10x10mm, Pitch 0.8mm, IPC Low Density)
3D model EPM7032-PQFP44 (44-Pin Plastic Quad Flat Pack (PFQP44))
signal-integrity model 7k (MAX 7000S)
part A pins: 1 IO (io), 2 IO (io), 3 IO (io), 5 IO (io), 6 IO (io), 7 IO (io), 8 IO (io), 10 IO (io), 11 IO (io), 12 IO (io), 13 IO (io), 14 IO (io), 15 IO (io), 42 IO (io), 43 IO (io), 44 IO (io)
part B pins: 18 IO (io), 19 IO (io), 20 IO (io), 21 IO (io), 22 IO (io), 23 IO (io), 25 IO (io), 26 IO (io), 27 IO (io), 28 IO (io), 30 IO (io), 31 IO (io), 32 IO (io), 33 IO (io), 34 IO (io), 35 IO (io)
part C pins: 37 INPUT/GCLK (in), 38 INPUT/OE1n (in), 39 INPUT/GCLRn (in), 40 INPUT/OE2n (in)
part D pins: 9 VCC (power), 17 VCC (power), 29 VCC (power), 41 VCC (power)
part E pins: 4 GND (power), 16 GND (power), 24 GND (power), 36 GND (power)
part A text: BANK A
part B text: BANK B

## EPM7032QI44-15T
designator U?
MAX 7000 5V CPLD, 32 Macrocells, 44-Pin PQFP, Speed Grade 15T, Industrial Grade; Published: 17-Sep-2003; LatestRevisionDate: 13-Apr-2006; LatestRevisionNote: IPC-7351 Footprint Added.; DatasheetVersion: ver6.7, Sep-2005; PackageVersion: ver14.3, Jul-2006; PackageReference: PQFP44; Publisher: Altium Limited; PackageDescription: 44-Pin Plastic Quad Flat Pack (PFQP44); Code_JEDEC: MS-022-AB; Code_IPC: QFP80P1320X1320-44; ComponentLink1Description: Manufacturer Link; ComponentLink1URL: http://www.altera.com/products/devices/max7k/m7k-index.html; ComponentLink2Description: Datasheet; ComponentLink2URL: http://www.altera.com/literature/ds/m7000.pdf; ComponentLink3Description: Packaging Specification; ComponentLink3URL: http://www.altera.com/literature/ds/dspkg.pdf
footprint PQFP44_N (QFP, 44-Leads, Body 10x10mm, Pitch 0.8mm, IPC Medium Density)
footprint PQFP44_L (QFP, 44-Leads, Body 10x10mm, Pitch 0.8mm, IPC High Density)
footprint PQFP44_M (QFP, 44-Leads, Body 10x10mm, Pitch 0.8mm, IPC Low Density)
3D model EPM7032-PQFP44 (44-Pin Plastic Quad Flat Pack (PFQP44))
signal-integrity model 7k (MAX 7000S)
part A pins: 1 IO (io), 2 IO (io), 3 IO (io), 5 IO (io), 6 IO (io), 7 IO (io), 8 IO (io), 10 IO (io), 11 IO (io), 12 IO (io), 13 IO (io), 14 IO (io), 15 IO (io), 42 IO (io), 43 IO (io), 44 IO (io)
part B pins: 18 IO (io), 19 IO (io), 20 IO (io), 21 IO (io), 22 IO (io), 23 IO (io), 25 IO (io), 26 IO (io), 27 IO (io), 28 IO (io), 30 IO (io), 31 IO (io), 32 IO (io), 33 IO (io), 34 IO (io), 35 IO (io)
part C pins: 37 INPUT/GCLK (in), 38 INPUT/OE1n (in), 39 INPUT/GCLRn (in), 40 INPUT/OE2n (in)
part D pins: 9 VCC (power), 17 VCC (power), 29 VCC (power), 41 VCC (power)
part E pins: 4 GND (power), 16 GND (power), 24 GND (power), 36 GND (power)
part A text: BANK A
part B text: BANK B

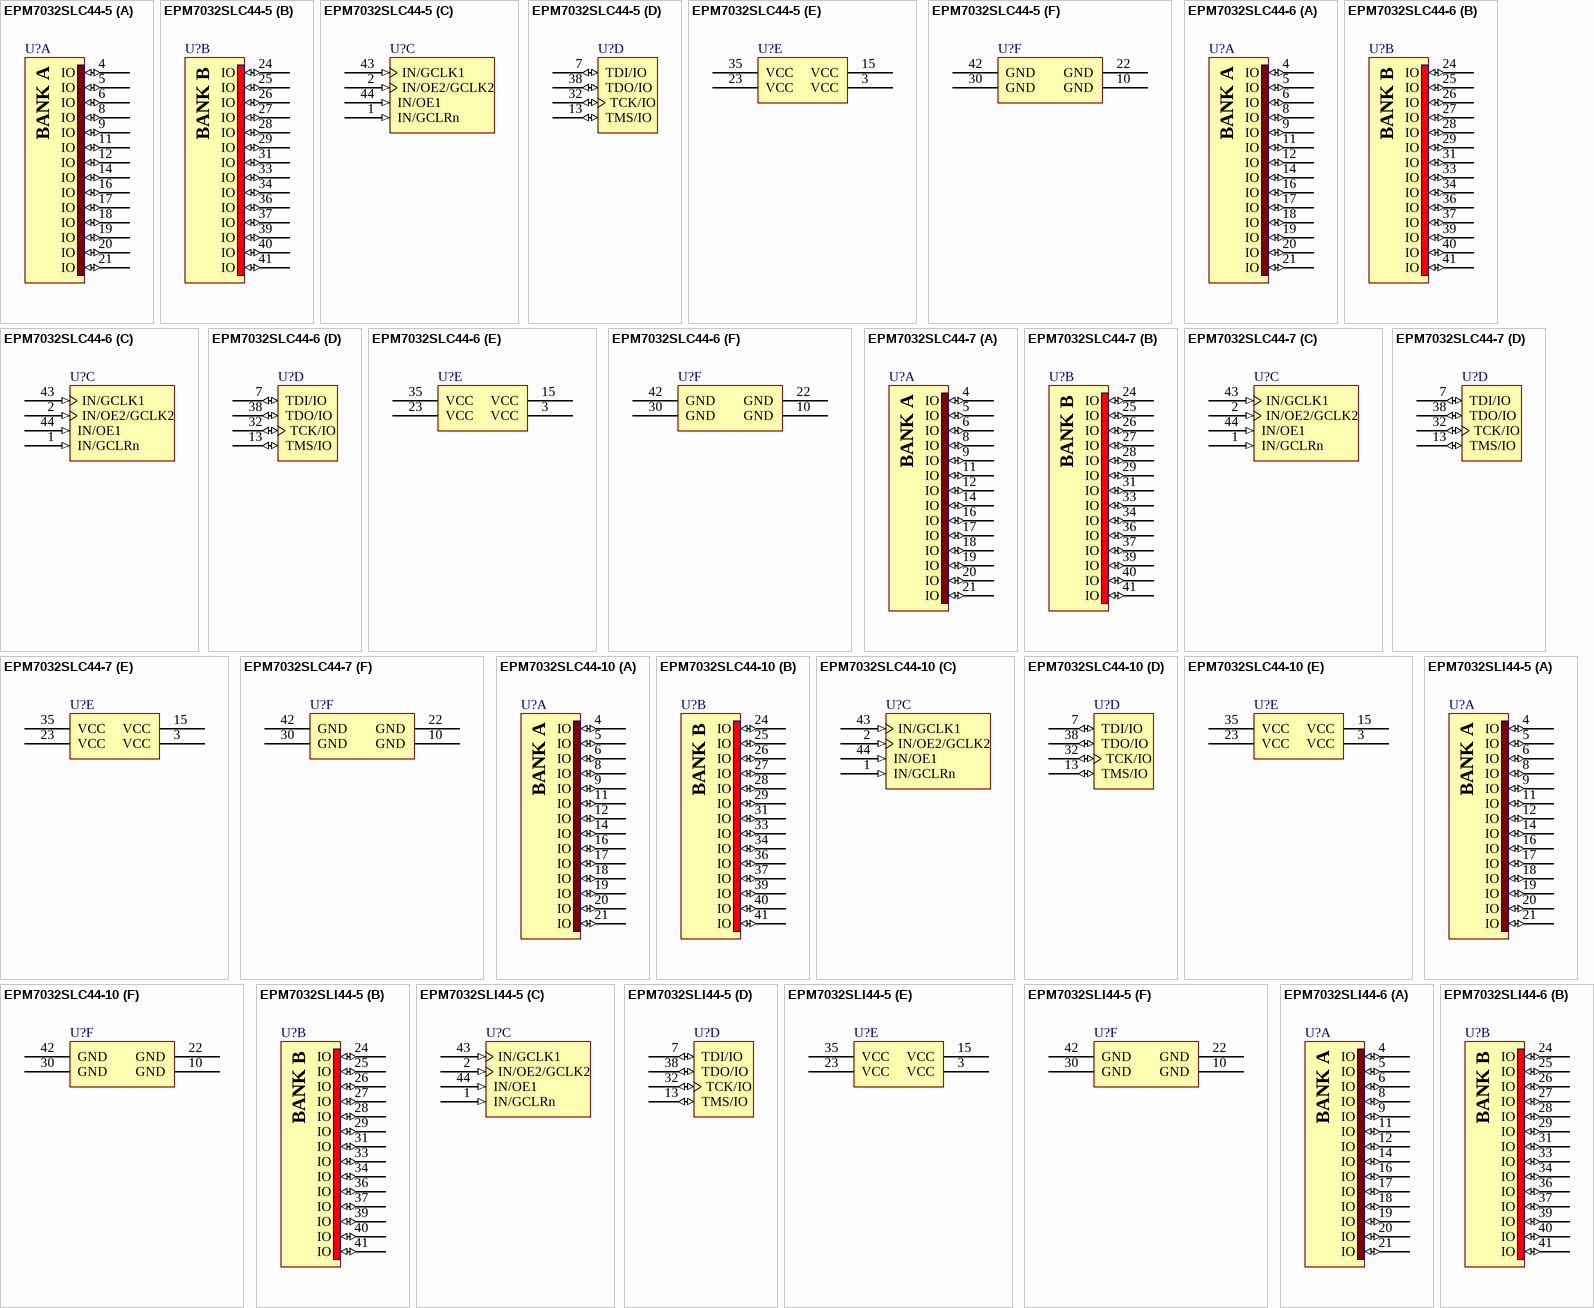
[diagram p4: symbols EPM7032SLC44-5 to EPM7032SLI44-6]

## EPM7032SLC44-5
designator U?
MAX 7000S 5V In-System Programmable CPLD, 32 Macrocells, 44-Pin PLCC, Speed Grade 5, Commercial Grade; Published: 24-Nov-2000; LatestRevisionDate: 13-Apr-2006; LatestRevisionNote: IPC-7351 Footprint Added.; DatasheetVersion: ver6.7, Sep-2005; PackageVersion: ver14.3, Jul-2006; PackageReference: PLCC44; Publisher: Altium Limited; PackageDescription: 44-Pin Plastic J-Lead Chip Carrier (PLCC44); Code_JEDEC: MS-018-AC; Code_IPC: PLCC-44; ComponentLink1Description: Manufacturer Link; ComponentLink1URL: http://www.altera.com/products/devices/max7k/m7k-index.html; ComponentLink2Description: Datasheet; ComponentLink2URL: http://www.altera.com/literature/ds/m7000.pdf; ComponentLink3Description: Packaging Specification; ComponentLink3URL: http://www.altera.com/literature/ds/dspkg.pdf
footprint PLCC44_N (Leaded Chip Carrier, 44-Leads, Body 16.6x16.6mm, Pitch 1.27mm, IPC Medium Density)
footprint PLCC44_L (Leaded Chip Carrier, 44-Leads, Body 16.6x16.6mm, Pitch 1.27mm, IPC High Density)
footprint PLCC44_M (Leaded Chip Carrier, 44-Leads, Body 16.6x16.6mm, Pitch 1.27mm, IPC Low Density)
3D model EPM7032S-PLCC44 (44-Pin Plastic J-Lead Chip Carrier (PLCC44))
signal-integrity model 7k (MAX 7000S)
part A pins: 4 IO (io), 5 IO (io), 6 IO (io), 8 IO (io), 9 IO (io), 11 IO (io), 12 IO (io), 14 IO (io), 16 IO (io), 17 IO (io), 18 IO (io), 19 IO (io), 20 IO (io), 21 IO (io)
part B pins: 24 IO (io), 25 IO (io), 26 IO (io), 27 IO (io), 28 IO (io), 29 IO (io), 31 IO (io), 33 IO (io), 34 IO (io), 36 IO (io), 37 IO (io), 39 IO (io), 40 IO (io), 41 IO (io)
part C pins: 1 IN/GCLRn (in), 2 IN/OE2/GCLK2 (in), 43 IN/GCLK1 (in), 44 IN/OE1 (in)
part D pins: 7 TDI/IO (io), 13 TMS/IO (io), 32 TCK/IO (io), 38 TDO/IO (io)
part E pins: 3 VCC (power), 15 VCC (power), 23 VCC (power), 35 VCC (power)
part F pins: 10 GND (power), 22 GND (power), 30 GND (power), 42 GND (power)
part A text: BANK A
part B text: BANK B

## EPM7032SLC44-6
designator U?
MAX 7000S 5V In-System Programmable CPLD, 32 Macrocells, 44-Pin PLCC, Speed Grade 6, Commercial Grade; Published: 24-Nov-2000; LatestRevisionDate: 13-Apr-2006; LatestRevisionNote: IPC-7351 Footprint Added.; DatasheetVersion: ver6.7, Sep-2005; PackageVersion: ver14.3, Jul-2006; PackageReference: PLCC44; Publisher: Altium Limited; PackageDescription: 44-Pin Plastic J-Lead Chip Carrier (PLCC44); Supplier 1: Digi-Key; Supplier Part Number 1: EPM7032SLC44-6-ND; Supplier 2: Farnell; Supplier Part Number 2: 3005811; Code_JEDEC: MS-018-AC; Code_IPC: PLCC-44; ComponentLink1Description: Manufacturer Link; ComponentLink1URL: http://www.altera.com/products/devices/max7k/m7k-index.html; ComponentLink2Description: Datasheet; ComponentLink2URL: http://www.altera.com/literature/ds/m7000.pdf; ComponentLink3Description: Packaging Specification; ComponentLink3URL: http://www.altera.com/literature/ds/dspkg.pdf
footprint PLCC44_N (Leaded Chip Carrier, 44-Leads, Body 16.6x16.6mm, Pitch 1.27mm, IPC Medium Density)
footprint PLCC44_L (Leaded Chip Carrier, 44-Leads, Body 16.6x16.6mm, Pitch 1.27mm, IPC High Density)
footprint PLCC44_M (Leaded Chip Carrier, 44-Leads, Body 16.6x16.6mm, Pitch 1.27mm, IPC Low Density)
3D model EPM7032S-PLCC44 (44-Pin Plastic J-Lead Chip Carrier (PLCC44))
signal-integrity model 7k (MAX 7000S)
part A pins: 4 IO (io), 5 IO (io), 6 IO (io), 8 IO (io), 9 IO (io), 11 IO (io), 12 IO (io), 14 IO (io), 16 IO (io), 17 IO (io), 18 IO (io), 19 IO (io), 20 IO (io), 21 IO (io)
part B pins: 24 IO (io), 25 IO (io), 26 IO (io), 27 IO (io), 28 IO (io), 29 IO (io), 31 IO (io), 33 IO (io), 34 IO (io), 36 IO (io), 37 IO (io), 39 IO (io), 40 IO (io), 41 IO (io)
part C pins: 1 IN/GCLRn (in), 2 IN/OE2/GCLK2 (in), 43 IN/GCLK1 (in), 44 IN/OE1 (in)
part D pins: 7 TDI/IO (io), 13 TMS/IO (io), 32 TCK/IO (io), 38 TDO/IO (io)
part E pins: 3 VCC (power), 15 VCC (power), 23 VCC (power), 35 VCC (power)
part F pins: 10 GND (power), 22 GND (power), 30 GND (power), 42 GND (power)
part A text: BANK A
part B text: BANK B